# EAGLE library part TPS54232 (library firefly)
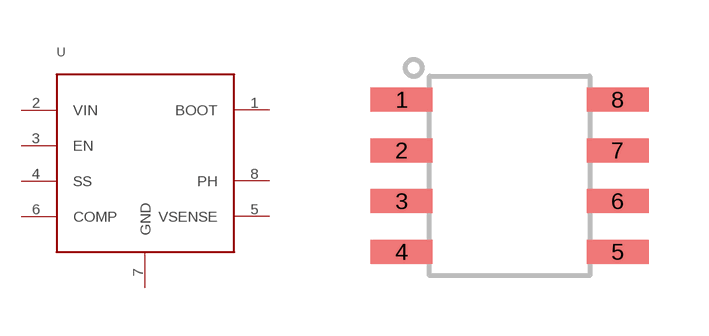
[diagram p36: symbol with the pads of R-PDSO-G8; footprint R-PDSO-G8]

Designator prefix -

## TPS54232  [R-PDSO-G8]
1  BOOT
2  VIN
3  EN
4  SS
5  VSENSE
6  COMP
7  GND
8  PH

## Footprint R-PDSO-G8 (pad centres in mm)
smd 1.55 x 0.6: 1 -2.7,1.905; 2 -2.7,0.635; 3 -2.7,-0.635; 4 -2.7,-1.905; 5 2.7,-1.905; 6 2.7,-0.635; 7 2.7,0.635; 8 2.7,1.905